# EAGLE library part CCFL (library CasaLibrary)
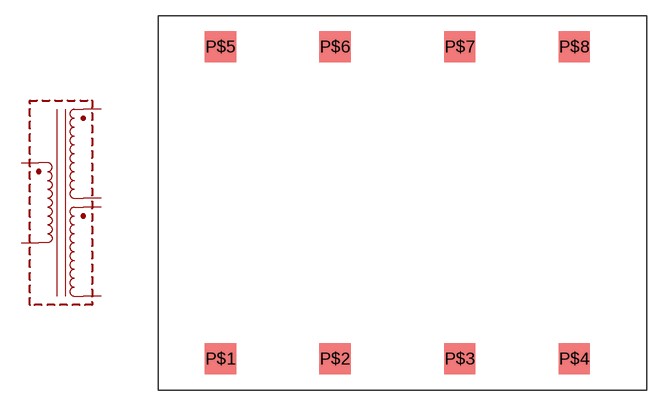
[diagram p23: symbol with the pads of TRANSFORMER_HVX2; footprint TRANSFORMER_HVX2]

Designator prefix -

## CCFL  [TRANSFORMER_HVX2]
P$2  GD1
P$3  GD2
P$5  OUT1+
P$6  OUT1-
P$7  OUT2+
P$8  OUT2-

## Footprint TRANSFORMER_HVX2 (pad centres in mm)
smd 3 x 3: P$1 -18,-15; P$2 -7,-15; P$3 5,-15; P$4 16,-15; P$5 -18,15; P$6 -7,15; P$7 5,15; P$8 16,15